# Altium footprint library LD_EDFA.PcbLib: 280 footprints (part 1 of 18)
Each footprint in its own frame and in the unit in brackets; x right, y up, seen from the top. Pads: shape width x height; smd on the part's side, far side on the other; paste and mask are expansions set on the pad; w line width, h text height; cw(c..) or ccw(c..) is an arc to the next point about the centre after c.
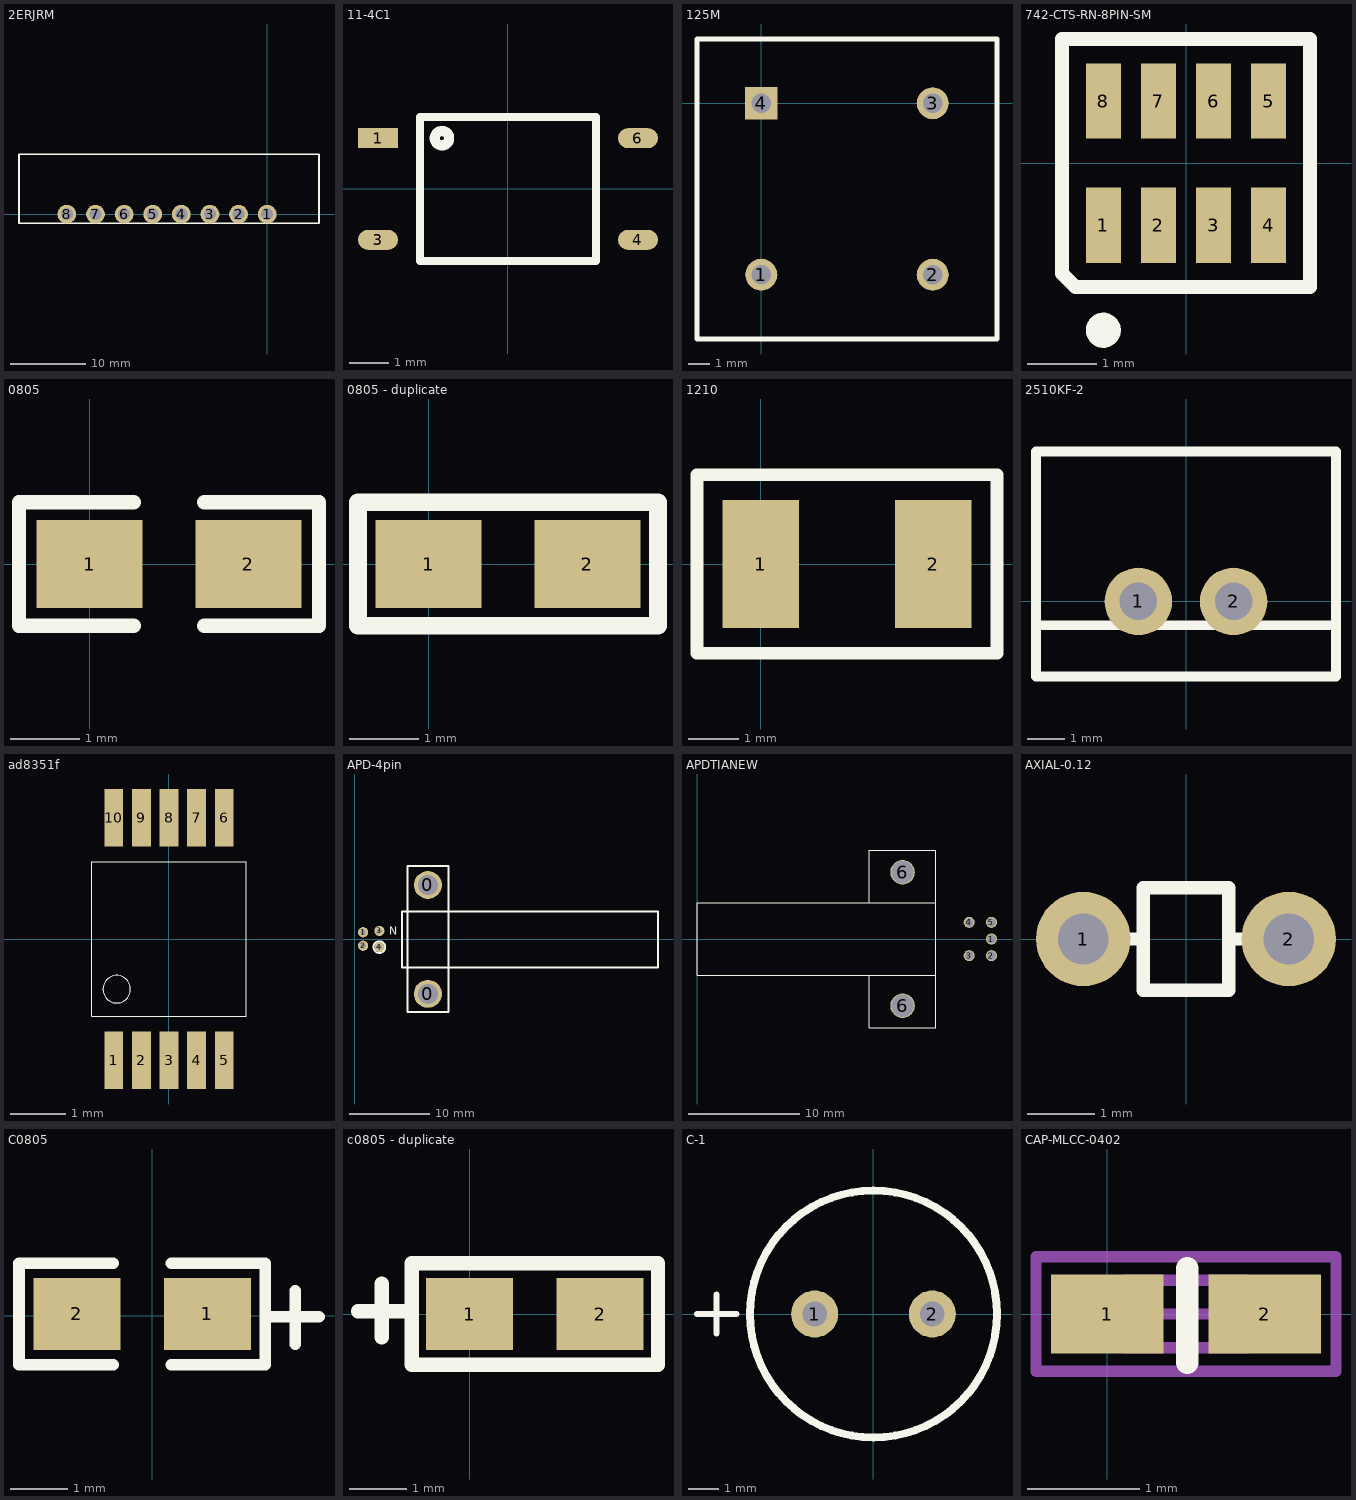
[diagram p0: the footprints below, top view; thin cyan lines are the x and y axes]

## 2ERJRM [mm]
pads (8):
  round 2.5 hole 1.6: 1(0,0) 2(-3.81,0) 3(-7.62,0) 4(-11.43,0) 5(-15.24,0) 6(-19.05,0) 7(-22.86,0) 8(-26.67,0)
Top Overlay:
  lines w0.2: -33.042,-1.2 -33.042,7.953
  lines w0.203: -33.042,-1.2 6.9,-1.2 ; -33.042,7.953 6.9,7.953 ; 6.9,-1.2 6.9,7.953 ; 6.9,-1.2 6.9,7.953

## 11-4C1 [mm] "Toshiba Optocoupler\"
pads (4):
  rect 1x0.5 smd: 1(-3.25,1.27)
  oval 1x0.5 smd: 3(-3.25,-1.27) 4(3.25,-1.27) 6(3.25,1.27)
Top Overlay:
  circle w0.254: c-1.651,1.27 r0.18
  lines w0.2: -2.2,-1.8 2.2,-1.8 2.2,1.8 -2.2,1.8 -2.2,-1.8

## 125M [mm]
pads (4):
  round 1.5 hole 0.9: 1(0,-8) 2(8,-8) 3(8,0)
  rect 1.5x1.5 hole 0.9: 4(0,0)
Top Overlay:
  lines w0.254: 10.95,3 -3,3 -3,-11 11,-11 11,3

## 742-CTS-RN-8PIN-SM [mil]
pads (8):
  rect 20x43 smd: 1(-47.2,-35.4) 2(-15.73,-35.4) 3(15.73,-35.4) 4(47.2,-35.4) 5(47.2,35.4) 6(15.73,35.4) 7(-15.73,35.4) 8(-47.2,35.4)
Top Overlay:
  circle w10: c-47.2,-95.4 r5
  lines w8: -70.8,-62.93 -70.8,59 -70.8,70.8 70.8,70.8 70.8,-70.8 -62.93,-70.8 -70.8,-62.93

## 0805 [mil]
pads (2):
  rect 60x50 smd: 1(0,0) 2(90,0)
Top Overlay:
  lines w8: 25,-35 -40,-35 -40,35 25,35 ; 65,-35 130,-35 130,35 65,35

## 0805 - duplicate [mil]
pads (2):
  rect 60x50 smd: 1(0,0) 2(90,0)
Top Overlay:
  lines w10: -40,-35 65,-35 130,-35 130,35 55,35 -40,35 -40,-35

## 1210 [mil]
pads (2):
  rect 60x100 smd: 1(0,0) 2(135,0)
Top Overlay:
  lines w10: -50,-70 110,-70 185,-70 185,70 110,70 -50,70 -50,-70

## 2510KF-2 [mm]
pads (2):
  round 1.8 hole 1: 1(-1.27,0) 2(1.27,0)
Top Overlay:
  lines w0.254: -3.937,-0.635 3.937,-0.635 ; -4,-2 -4,4 4,4 4,-2 -4,-2

## ad8351f [mm]
pads (10):
  rect 0.34x1.039 smd: 1(-0.998,-2.194) 2(-0.497,-2.194) 3(0.003,-2.194) 4(0.503,-2.194) 5(1.004,-2.194) 6(1.004,2.205) 7(0.503,2.205) 8(0.003,2.205) 9(-0.497,2.205) 10(-0.998,2.205)
Top Overlay:
  lines w0.01: -1.397,-1.394 -1.397,1.405 1.403,1.405 1.403,-1.394 -1.397,-1.394 ; -1.196,-0.905 ccw(c-0.946,-0.905) -0.696,-0.905 ccw(c-0.946,-0.905) -1.196,-0.905
Mechanical 16:
  lines w0.01: -1.196,-0.905 ccw(c-0.946,-0.905) -0.696,-0.905 ccw(c-0.946,-0.905) -1.196,-0.905

## APD-4pin [mil]
pads (6):
  round 137.79 hole 98.42: 0(358.66,-269.57) 0(358.66,265.86)
  round 50 hole 25: 1(40,33) 2(40,-33) 3(120,40) 4(120,-40)
Top Overlay:
  circle w10: c120,-40 r28.79
  lines w10: 230.27,-139.65 230.27,135.94 1490.12,135.94 1490.12,-139.65 230.27,-139.65 ; 259.41,-360 259.41,360 459.53,360 459.53,-360 259.41,-360
  text "N" at 169,20 h40

## APDTIANEW [mm]
pads (7):
  round 1 hole 0.8: 1(26.5,0) 2(26.5,-1.5) 3(24.5,-1.5) 4(24.5,1.5) 5(26.5,1.5)
  round 2.2 hole 2 mask+0.2: 6(18.5,-6) 6(18.5,6)
Top Overlay:
  lines w0.1: 15.5,-3.25 15.5,-8 21.5,-8 21.5,-3.25 ; 15.5,3.25 15.5,8 21.5,8 21.5,3.25 ; 21.5,-3.25 0,-3.25 0,3.25 21.5,3.25 ; 21.5,-3.25 21.5,3.25

## AXIAL-0.12 [mm] "Axial Device, Thru-Hole; 2 Leads; 0.3 in Pin Spacing"
height 1.524
pads (2):
  round 1.4 hole 0.75: 1(-1.524,0) 2(1.524,0)
Top Overlay:
  lines w0.2: -1.016,0 -0.635,0 ; 1.016,0 0.635,0 ; 0.635,0 0.635,-0.762 -0.635,-0.762 -0.635,0.762 0.635,0.762 0.635,0.127 0.635,0

## C0805 [mil]
pads (2):
  rect 60x50 smd: 1(38.18,1.06) 2(-51.82,1.06)
Top Overlay:
  lines w8: -26.82,-33.94 -91.82,-33.94 -91.82,36.05 -26.82,36.05 ; 13.18,-33.95 78.18,-33.94 78.18,36.05 13.18,36.05 ; 81.16,-0.91 115.16,-0.91 ; 98.72,-19.94 98.72,17.06

## c0805 - duplicate [mil]
height 210.24
pads (2):
  rect 60x50 smd: 1(0,0) 2(90,0)
Top Overlay:
  lines w10: -76.99,1.97 -42.99,1.97 ; -60.55,-16 -60.55,21 ; -40,-35 65,-35 130,-35 130,35 65,35 -40,35 -40,-35

## C-1 [mil]
pads (2):
  round 60 hole 31.5: 1(-75,0) 2(75,0)
Top Overlay:
  circle w10: c0,0 r157.48
  lines w8: -225,0 -175,0 ; -200,-25 -200,25

## CAP-MLCC-0402 [mm]
pads (2):
  rect 1x0.7 smd: 1(0,0) 2(1.4,0)
Top Overlay:
  lines w0.2: 0.711,-0.432 0.711,0.406
Mechanical 13:
  lines w0.1: 0.15,-0.3 0.15,0.3 1.25,0.3 1.25,-0.3 0.15,-0.3
Mechanical 15:
  lines w0.1: 0.4,0 1,0 ; 0.7,-0.3 0.7,0.3 ; -0.635,-0.508 -0.635,0.508 2.032,0.508 2.032,-0.508 -0.635,-0.508
3D body: height 0.6, standoff 0, extent 0.15,-0.3 1.25,0.3